# EAGLE library part BME280 (library Adafruit_Arduino)
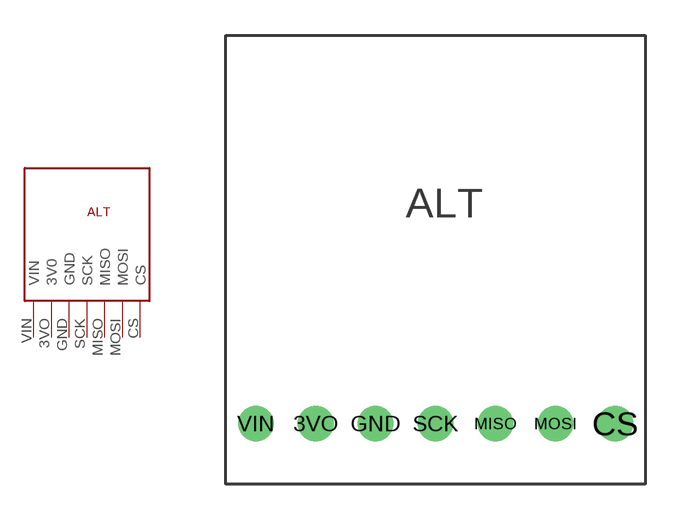
[diagram p4: symbol with the pads of BME280; footprint BME280]

Designator prefix -

## BME280  [BME280]
3VO  3V0
CS  CS
GND  GND
MISO  MISO
MOSI  MOSI
SCK  SCK
VIN  VIN

## Footprint BME280 (pad centres in mm)
drill 1: 3VO -5.08,-6.96; CS 7.62,-6.96; GND -2.54,-6.96; MISO 2.54,-6.96; MOSI 5.08,-6.96; SCK 0,-6.96; VIN -7.62,-6.96